# Altium footprint library PcbLib2.PcbLib: 3 footprints
Each footprint in its own frame and in the unit in brackets; x right, y up, seen from the top. Pads: shape width x height; smd on the part's side, far side on the other; paste and mask are expansions set on the pad; w line width, h text height; cw(c..) or ccw(c..) is an arc to the next point about the centre after c.
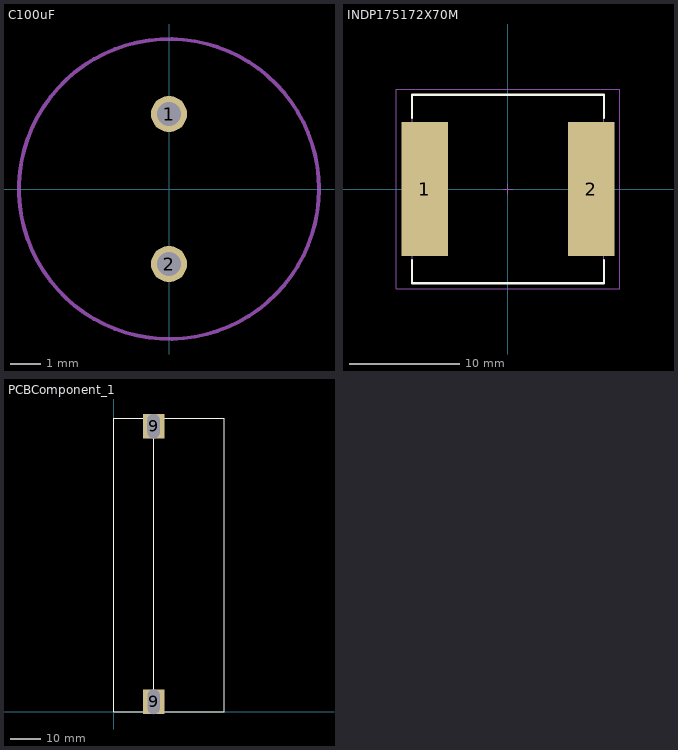
[diagram p0: the footprints below, top view; thin cyan lines are the x and y axes]

## C100uF [mm]
height 20
pads (2):
  round 1.2 hole 0.8: 1(0,2.5) 2(0,-2.5)
Mechanical 15:
  circle w0.127: c0,0 r5

## INDP175172X70M [mm] "Precision Wire Wound Inductor, 2-Leads, Body 17.50x17.15mm, IPC Low Density"
height 7
pads (2):
  rect 4.25x12.2 smd: 1(-7.575,0) 2(7.575,0)
Top Overlay:
  lines w0.2: -8.75,-6.5 -8.75,-8.6 8.75,-8.6 8.75,-6.5 ; -8.75,6.5 -8.75,8.6 8.75,8.6 8.75,6.5
Mechanical 13:
  lines w0.1: -8.75,-8.575 -8.75,8.575 8.75,8.575 8.75,-8.575 -8.75,-8.575
Mechanical 15:
  lines w0.05: -10.175,-9.1 -10.175,9.1 10.175,9.1 10.175,-9.1 -10.175,-9.1
  lines w0.1: -0.5,0 0.5,0 ; 0,-0.5 0,0.5
3D body: height 7, standoff 0, extent -8.75,-8.575 8.75,8.575

## PCBComponent_1 [mm]
pads (2):
  rect 7x8 hole 4 slot 8 at 90 deg: 9(12.954,93.472) 9(13,3.302)
Top Overlay:
  lines w0.254: 13,6.5 13,89.5 ; 0,0 0,96 36,96 36,0 0,0